# Altium footprint library 613 0xx 110 21.PcbLib: 18 footprints (part 1 of 2)
Each footprint in its own frame and in the unit in brackets; x right, y up, seen from the top. Pads: shape width x height; smd on the part's side, far side on the other; paste and mask are expansions set on the pad; w line width, h text height; cw(c..) or ccw(c..) is an arc to the next point about the centre after c.
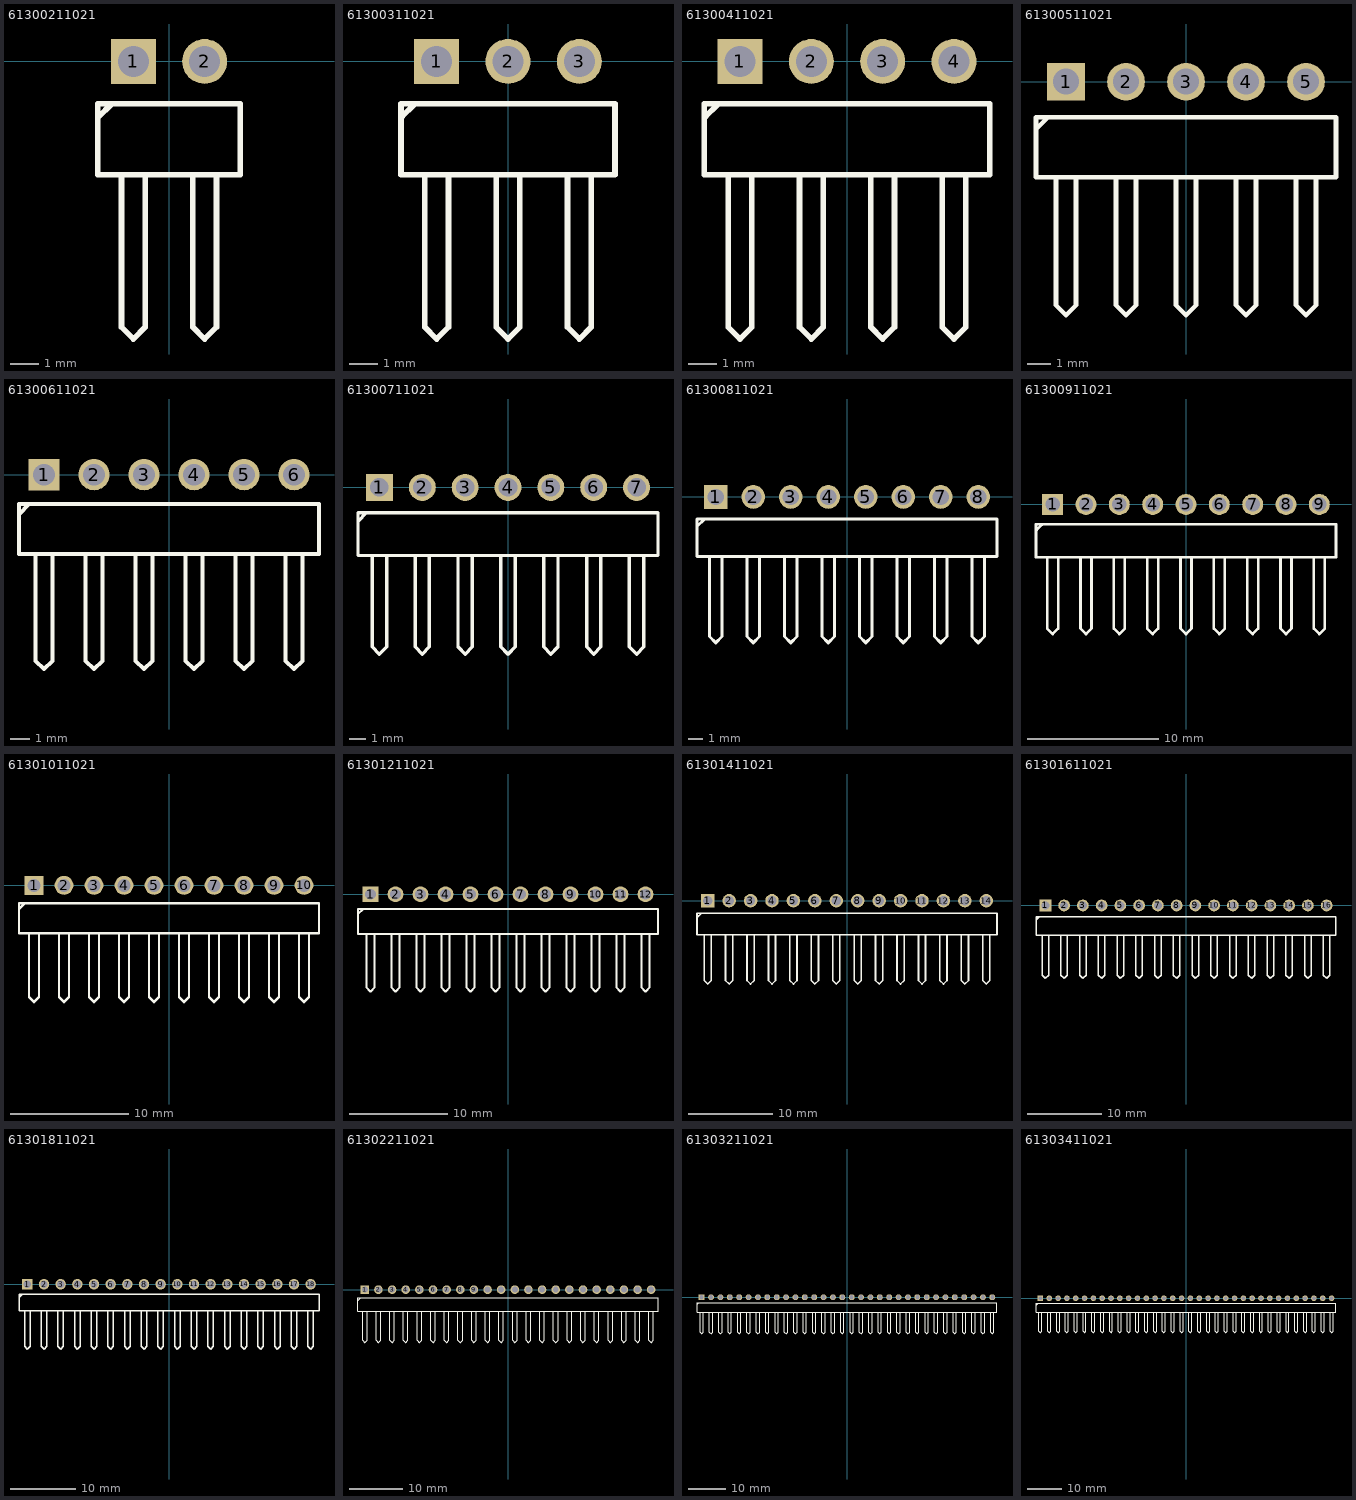
[diagram p0: the footprints below, top view; thin cyan lines are the x and y axes]

## 61300211021 [mm] "2 pins, 1 row, right angled, gold plating"
height 2.54
pads (2):
  rect 1.6x1.6 hole 1.1: 1(-1.27,0)
  round 1.6 hole 1.1: 2(1.27,0)
Top Overlay:
  lines w0.2: -2.498,-1.966 -2.074,-1.542 ; -1.693,-4.065 -1.693,-9.459 -1.27,-9.882 -0.847,-9.459 -0.847,-4.04 ; 0.847,-4.065 0.847,-9.459 1.27,-9.882 1.693,-9.459 1.693,-4.065 ; -2.54,-4.04 2.54,-4.04 2.54,-1.5 -2.54,-1.5 -2.54,-4.04
3D body "61300211021.stp": height 2.55, standoff -2.99, extent -2.54,-10.064 2.54,0.296

## 61300311021 [mm] "3 pins, 1 row, right angled, gold plating"
height 2.54
pads (3):
  rect 1.6x1.6 hole 1.1: 1(-2.54,0)
  round 1.6 hole 1.1: 2(0,0) 3(2.54,0)
Top Overlay:
  lines w0.2: -3.768,-1.966 -3.344,-1.542 ; -2.963,-4.065 -2.963,-9.459 -2.54,-9.882 -2.117,-9.459 -2.117,-4.04 ; -0.423,-4.065 -0.423,-9.459 0,-9.882 0.423,-9.459 0.423,-4.065 ; 2.117,-4.065 2.117,-9.459 2.54,-9.882 2.963,-9.459 2.963,-4.04 ; -3.81,-4.04 3.81,-4.04 3.81,-1.5 -3.81,-1.5 -3.81,-4.04
3D body "61300311021.stp": height 2.55, standoff -2.99, extent -3.81,-10.064 3.81,0.296

## 61300411021 [mm] "4 pins, 1 row, right angled, gold plating"
height 2.54
pads (4):
  rect 1.6x1.6 hole 1.1: 1(-3.81,0)
  round 1.6 hole 1.1: 2(-1.27,0) 3(1.27,0) 4(3.81,0)
Top Overlay:
  lines w0.2: -5.038,-1.966 -4.614,-1.542 ; -4.233,-4.065 -4.233,-9.459 -3.81,-9.882 -3.387,-9.459 -3.387,-4.04 ; -1.693,-4.065 -1.693,-9.459 -1.27,-9.882 -0.847,-9.459 -0.847,-4.065 ; 0.847,-4.065 0.847,-9.459 1.27,-9.882 1.693,-9.459 1.693,-4.04 ; 3.387,-4.065 3.387,-9.459 3.81,-9.882 4.233,-9.459 4.233,-4.065 ; -5.08,-4.04 -5.08,-1.5 5.08,-1.5 5.08,-4.04 -5.08,-4.04
3D body "61300411021.stp": height 2.57, standoff -2.97, extent -5.08,-10.106 5.08,0.254

## 61300511021 [mm] "5 pins, 1 row, right angled, gold plating"
height 2.54
pads (5):
  rect 1.6x1.6 hole 1.1: 1(-5.08,0)
  round 1.6 hole 1.1: 2(-2.54,0) 3(0,0) 4(2.54,0) 5(5.08,0)
Top Overlay:
  lines w0.2: -6.308,-1.966 -5.884,-1.542 ; -5.503,-4.065 -5.503,-9.459 -5.08,-9.882 -4.657,-9.459 -4.657,-4.04 ; -2.963,-4.065 -2.963,-9.459 -2.54,-9.882 -2.117,-9.459 -2.117,-4.065 ; -0.423,-4.065 -0.423,-9.459 0,-9.882 0.423,-9.459 0.423,-4.04 ; 2.117,-4.065 2.117,-9.459 2.54,-9.882 2.963,-9.459 2.963,-4.065 ; 4.657,-4.065 4.657,-9.459 5.08,-9.882 5.503,-9.459 5.503,-4.04 ; -6.35,-4.04 -6.35,-1.5 6.35,-1.5 6.35,-4.04 -6.35,-4.04
3D body "61300511021.stp": height 2.55, standoff -2.99, extent -6.35,-10.064 6.35,0.296

## 61300611021 [mm] "6 pins, 1 row, right angled, gold plating"
height 2.54
pads (6):
  rect 1.6x1.6 hole 1.1: 1(-6.35,0)
  round 1.6 hole 1.1: 2(-3.81,0) 3(-1.27,0) 4(1.27,0) 5(3.81,0) 6(6.35,0)
Top Overlay:
  lines w0.2: -7.578,-1.966 -7.154,-1.542 ; -6.773,-4.065 -6.773,-9.459 -6.35,-9.882 -5.927,-9.459 -5.927,-4.04 ; -4.233,-4.065 -4.233,-9.459 -3.81,-9.882 -3.387,-9.459 -3.387,-4.065 ; -1.693,-4.065 -1.693,-9.459 -1.27,-9.882 -0.847,-9.459 -0.847,-4.04 ; 0.847,-4.065 0.847,-9.459 1.27,-9.882 1.693,-9.459 1.693,-4.065 ; 3.387,-4.065 3.387,-9.459 3.81,-9.882 4.233,-9.459 4.233,-4.04 ; 5.927,-4.065 5.927,-9.459 6.35,-9.882 6.773,-9.459 6.773,-4.065 ; -7.62,-4.04 7.62,-4.04 7.62,-1.5 -7.62,-1.5 -7.62,-4.04
3D body "61300611021.stp": height 2.55, standoff -2.99, extent -7.62,-10.064 7.62,0.296

## 61300711021 [mm] "7 pins, 1 row, right angled, gold plating"
height 2.54
pads (7):
  rect 1.6x1.6 hole 1.1: 1(-7.62,0)
  round 1.6 hole 1.1: 2(-5.08,0) 3(-2.54,0) 4(0,0) 5(2.54,0) 6(5.08,0) 7(7.62,0)
Top Overlay:
  lines w0.2: -8.848,-1.966 -8.424,-1.542 ; -8.043,-4.065 -8.043,-9.459 -7.62,-9.882 -7.197,-9.459 -7.197,-4.04 ; -5.503,-4.065 -5.503,-9.459 -5.08,-9.882 -4.657,-9.459 -4.657,-4.065 ; -2.963,-4.065 -2.963,-9.459 -2.54,-9.882 -2.117,-9.459 -2.117,-4.04 ; -0.423,-4.065 -0.423,-9.459 0,-9.882 0.423,-9.459 0.423,-4.065 ; 2.117,-4.065 2.117,-9.459 2.54,-9.882 2.963,-9.459 2.963,-4.04 ; 4.657,-4.065 4.657,-9.459 5.08,-9.882 5.503,-9.459 5.503,-4.065 ; 7.197,-4.065 7.197,-9.459 7.62,-9.882 8.043,-9.459 8.043,-4.04 ; -8.89,-4.04 8.89,-4.04 8.89,-1.5 -8.89,-1.5 -8.89,-4.04
3D body "61300711021.stp": height 2.55, standoff -2.99, extent -8.89,-10.064 8.89,0.296

## 61300811021 [mm] "8 pins, 1 row, right angled, gold plating"
height 2.54
pads (8):
  rect 1.6x1.6 hole 1.1: 1(-8.89,0)
  round 1.6 hole 1.1: 2(-6.35,0) 3(-3.81,0) 4(-1.27,0) 5(1.27,0) 6(3.81,0) 7(6.35,0) 8(8.89,0)
Top Overlay:
  lines w0.2: -10.118,-1.966 -9.694,-1.542 ; -9.313,-4.065 -9.313,-9.459 -8.89,-9.882 -8.467,-9.459 -8.467,-4.04 ; -6.773,-4.065 -6.773,-9.459 -6.35,-9.882 -5.927,-9.459 -5.927,-4.065 ; -4.233,-4.065 -4.233,-9.459 -3.81,-9.882 -3.387,-9.459 -3.387,-4.04 ; -1.693,-4.065 -1.693,-9.459 -1.27,-9.882 -0.847,-9.459 -0.847,-4.065 ; 0.847,-4.065 0.847,-9.459 1.27,-9.882 1.693,-9.459 1.693,-4.04 ; 3.387,-4.065 3.387,-9.459 3.81,-9.882 4.233,-9.459 4.233,-4.065 ; 5.927,-4.065 5.927,-9.459 6.35,-9.882 6.773,-9.459 6.773,-4.04 ; 8.467,-4.065 8.467,-9.459 8.89,-9.882 9.313,-9.459 9.313,-4.065 ; -10.16,-4.04 10.16,-4.04 10.16,-1.5 -10.16,-1.5 -10.16,-4.04
3D body "61300811021.stp": height 2.55, standoff -2.99, extent -10.16,-10.064 10.16,0.296

## 61300911021 [mm] "9 pins, 1 row, right angled, gold plating"
height 2.54
pads (9):
  rect 1.6x1.6 hole 1.1: 1(-10.16,0)
  round 1.6 hole 1.1: 2(-7.62,0) 3(-5.08,0) 4(-2.54,0) 5(0,0) 6(2.54,0) 7(5.08,0) 8(7.62,0) 9(10.16,0)
Top Overlay:
  lines w0.2: -11.388,-1.966 -10.964,-1.542 ; -10.583,-4.065 -10.583,-9.459 -10.16,-9.882 -9.737,-9.459 -9.737,-4.04 ; -8.043,-4.065 -8.043,-9.459 -7.62,-9.882 -7.197,-9.459 -7.197,-4.065 ; -5.503,-4.065 -5.503,-9.459 -5.08,-9.882 -4.657,-9.459 -4.657,-4.04 ; -2.963,-4.065 -2.963,-9.459 -2.54,-9.882 -2.117,-9.459 -2.117,-4.065 ; -0.423,-4.065 -0.423,-9.459 0,-9.882 0.423,-9.459 0.423,-4.04 ; 2.117,-4.065 2.117,-9.459 2.54,-9.882 2.963,-9.459 2.963,-4.065 ; 4.657,-4.065 4.657,-9.459 5.08,-9.882 5.503,-9.459 5.503,-4.04 ; 7.197,-4.065 7.197,-9.459 7.62,-9.882 8.043,-9.459 8.043,-4.065 ; 9.737,-4.065 9.737,-9.459 10.16,-9.882 10.583,-9.459 10.583,-4.04 ; -11.43,-4.04 -11.43,-1.5 11.43,-1.5 11.43,-4.04 -11.43,-4.04
3D body "61300911021.stp": height 2.55, standoff -2.99, extent -11.43,-10.064 11.43,0.296

## 61301011021 [mm] "10 pins, 1 row, right angled, gold plating"
height 2.54
pads (10):
  rect 1.6x1.6 hole 1.1: 1(-11.43,0)
  round 1.6 hole 1.1: 2(-8.89,0) 3(-6.35,0) 4(-3.81,0) 5(-1.27,0) 6(1.27,0) 7(3.81,0) 8(6.35,0) 9(8.89,0) 10(11.43,0)
Top Overlay:
  lines w0.2: -12.658,-1.966 -12.234,-1.542 ; -11.853,-4.065 -11.853,-9.459 -11.43,-9.882 -11.007,-9.459 -11.007,-4.04 ; -9.313,-4.065 -9.313,-9.459 -8.89,-9.882 -8.467,-9.459 -8.467,-4.065 ; -6.773,-4.065 -6.773,-9.459 -6.35,-9.882 -5.927,-9.459 -5.927,-4.04 ; -4.233,-4.065 -4.233,-9.459 -3.81,-9.882 -3.387,-9.459 -3.387,-4.065 ; -1.693,-4.065 -1.693,-9.459 -1.27,-9.882 -0.847,-9.459 -0.847,-4.04 ; 0.847,-4.065 0.847,-9.459 1.27,-9.882 1.693,-9.459 1.693,-4.065 ; 3.387,-4.065 3.387,-9.459 3.81,-9.882 4.233,-9.459 4.233,-4.04 ; 5.927,-4.065 5.927,-9.459 6.35,-9.882 6.773,-9.459 6.773,-4.065 ; 8.467,-4.065 8.467,-9.459 8.89,-9.882 9.313,-9.459 9.313,-4.04 ; 11.007,-4.065 11.007,-9.459 11.43,-9.882 11.853,-9.459 11.853,-4.065 ; -12.7,-4.04 -12.7,-1.5 12.7,-1.5 12.7,-4.04 -12.7,-4.04
3D body "61301011021.stp": height 2.55, standoff -2.99, extent -12.7,-10.064 12.7,0.296

## 61301211021 [mm] "12 pins, 1 row, right angled, gold plating"
height 2.54
pads (12):
  rect 1.6x1.6 hole 1.1: 1(-13.97,0)
  round 1.6 hole 1.1: 2(-11.43,0) 3(-8.89,0) 4(-6.35,0) 5(-3.81,0) 6(-1.27,0) 7(1.27,0) 8(3.81,0) 9(6.35,0) 10(8.89,0) 11(11.43,0) 12(13.97,0)
Top Overlay:
  lines w0.2: -15.198,-1.966 -14.774,-1.542 ; -14.393,-4.065 -14.393,-9.459 -13.97,-9.882 -13.547,-9.459 -13.547,-4.04 ; -11.853,-4.065 -11.853,-9.459 -11.43,-9.882 -11.007,-9.459 -11.007,-4.065 ; -9.313,-4.065 -9.313,-9.459 -8.89,-9.882 -8.467,-9.459 -8.467,-4.04 ; -6.773,-4.065 -6.773,-9.459 -6.35,-9.882 -5.927,-9.459 -5.927,-4.065 ; -4.233,-4.065 -4.233,-9.459 -3.81,-9.882 -3.387,-9.459 -3.387,-4.04 ; -1.693,-4.065 -1.693,-9.459 -1.27,-9.882 -0.847,-9.459 -0.847,-4.065 ; 0.847,-4.065 0.847,-9.459 1.27,-9.882 1.693,-9.459 1.693,-4.04 ; 3.387,-4.065 3.387,-9.459 3.81,-9.882 4.233,-9.459 4.233,-4.065 ; 5.927,-4.065 5.927,-9.459 6.35,-9.882 6.773,-9.459 6.773,-4.04 ; 8.467,-4.065 8.467,-9.459 8.89,-9.882 9.313,-9.459 9.313,-4.065 ; 11.007,-4.065 11.007,-9.459 11.43,-9.882 11.853,-9.459 11.853,-4.04 ; 13.547,-4.065 13.547,-9.459 13.97,-9.882 14.393,-9.459 14.393,-4.065 ; -15.24,-4.04 -15.24,-1.5 15.24,-1.5 15.24,-4.04 -15.24,-4.04
3D body "61301211021.stp": height 2.55, standoff -2.99, extent -15.24,-10.064 15.24,0.296

## 61301411021 [mm] "14 pins, 1 row, right angled, gold plating"
height 2.54
pads (14):
  rect 1.6x1.6 hole 1.1: 1(-16.51,0)
  round 1.6 hole 1.1: 2(-13.97,0) 3(-11.43,0) 4(-8.89,0) 5(-6.35,0) 6(-3.81,0) 7(-1.27,0) 8(1.27,0) 9(3.81,0) 10(6.35,0) 11(8.89,0) 12(11.43,0) 13(13.97,0) 14(16.51,0)
Top Overlay:
  lines w0.2: -17.738,-1.966 -17.314,-1.542 ; -16.933,-4.065 -16.933,-9.459 -16.51,-9.882 -16.087,-9.459 -16.087,-4.04 ; -14.393,-4.065 -14.393,-9.459 -13.97,-9.882 -13.547,-9.459 -13.547,-4.065 ; -11.853,-4.065 -11.853,-9.459 -11.43,-9.882 -11.007,-9.459 -11.007,-4.04 ; -9.313,-4.065 -9.313,-9.459 -8.89,-9.882 -8.467,-9.459 -8.467,-4.065 ; -6.773,-4.065 -6.773,-9.459 -6.35,-9.882 -5.927,-9.459 -5.927,-4.04 ; -4.233,-4.065 -4.233,-9.459 -3.81,-9.882 -3.387,-9.459 -3.387,-4.065 ; -1.693,-4.065 -1.693,-9.459 -1.27,-9.882 -0.847,-9.459 -0.847,-4.04 ; 0.847,-4.065 0.847,-9.459 1.27,-9.882 1.693,-9.459 1.693,-4.065 ; 3.387,-4.065 3.387,-9.459 3.81,-9.882 4.233,-9.459 4.233,-4.04 ; 5.927,-4.065 5.927,-9.459 6.35,-9.882 6.773,-9.459 6.773,-4.065 ; 8.467,-4.065 8.467,-9.459 8.89,-9.882 9.313,-9.459 9.313,-4.04 ; 11.007,-4.065 11.007,-9.459 11.43,-9.882 11.853,-9.459 11.853,-4.065 ; 13.547,-4.065 13.547,-9.459 13.97,-9.882 14.393,-9.459 14.393,-4.04 ; 16.087,-4.065 16.087,-9.459 16.51,-9.882 16.933,-9.459 16.933,-4.065 ; -17.78,-4.04 -17.78,-1.5 17.78,-1.5 17.78,-4.04 -17.78,-4.04
3D body "61301411021.stp": height 2.55, standoff -2.99, extent -17.78,-10.064 17.78,0.296

## 61301611021 [mm] "16 pins, 1 row, right angled, gold plating"
height 2.54
pads (16):
  rect 1.6x1.6 hole 1.1: 1(-19.05,0)
  round 1.6 hole 1.1: 2(-16.51,0) 3(-13.97,0) 4(-11.43,0) 5(-8.89,0) 6(-6.35,0) 7(-3.81,0) 8(-1.27,0) 9(1.27,0) 10(3.81,0) 11(6.35,0) 12(8.89,0) 13(11.43,0) 14(13.97,0) 15(16.51,0) 16(19.05,0)
Top Overlay:
  lines w0.2: -20.278,-1.966 -19.854,-1.542 ; -19.473,-4.065 -19.473,-9.459 -19.05,-9.882 -18.627,-9.459 -18.627,-4.04 ; -16.933,-4.065 -16.933,-9.459 -16.51,-9.882 -16.087,-9.459 -16.087,-4.065 ; -14.393,-4.065 -14.393,-9.459 -13.97,-9.882 -13.547,-9.459 -13.547,-4.04 ; -11.853,-4.065 -11.853,-9.459 -11.43,-9.882 -11.007,-9.459 -11.007,-4.065 ; -9.313,-4.065 -9.313,-9.459 -8.89,-9.882 -8.467,-9.459 -8.467,-4.04 ; -6.773,-4.065 -6.773,-9.459 -6.35,-9.882 -5.927,-9.459 -5.927,-4.065 ; -4.233,-4.065 -4.233,-9.459 -3.81,-9.882 -3.387,-9.459 -3.387,-4.04 ; -1.693,-4.065 -1.693,-9.459 -1.27,-9.882 -0.847,-9.459 -0.847,-4.065 ; 0.847,-4.065 0.847,-9.459 1.27,-9.882 1.693,-9.459 1.693,-4.04 ; 3.387,-4.065 3.387,-9.459 3.81,-9.882 4.233,-9.459 4.233,-4.065 ; 5.927,-4.065 5.927,-9.459 6.35,-9.882 6.773,-9.459 6.773,-4.04 ; 8.467,-4.065 8.467,-9.459 8.89,-9.882 9.313,-9.459 9.313,-4.065 ; 11.007,-4.065 11.007,-9.459 11.43,-9.882 11.853,-9.459 11.853,-4.04 ; 13.547,-4.065 13.547,-9.459 13.97,-9.882 14.393,-9.459 14.393,-4.065 ; 16.087,-4.065 16.087,-9.459 16.51,-9.882 16.933,-9.459 16.933,-4.04 ; 18.627,-4.065 18.627,-9.459 19.05,-9.882 19.473,-9.459 19.473,-4.065 ; -20.32,-4.04 20.32,-4.04 20.32,-1.5 -20.32,-1.5 -20.32,-4.04
3D body "61301611021.stp": height 2.55, standoff -2.99, extent -20.32,-10.064 20.32,0.296

## 61301811021 [mm] "18 pins, 1 row, right angled, gold plating"
height 2.54
pads (18):
  rect 1.6x1.6 hole 1.1: 1(-21.59,0)
  round 1.6 hole 1.1: 2(-19.05,0) 3(-16.51,0) 4(-13.97,0) 5(-11.43,0) 6(-8.89,0) 7(-6.35,0) 8(-3.81,0) 9(-1.27,0) 10(1.27,0) 11(3.81,0) 12(6.35,0) 13(8.89,0) 14(11.43,0) 15(13.97,0) 16(16.51,0) 17(19.05,0) 18(21.59,0)
Top Overlay:
  lines w0.2: -22.818,-1.966 -22.394,-1.542 ; -22.013,-4.065 -22.013,-9.459 -21.59,-9.882 -21.167,-9.459 -21.167,-4.04 ; -19.473,-4.065 -19.473,-9.459 -19.05,-9.882 -18.627,-9.459 -18.627,-4.065 ; -16.933,-4.065 -16.933,-9.459 -16.51,-9.882 -16.087,-9.459 -16.087,-4.04 ; -14.393,-4.065 -14.393,-9.459 -13.97,-9.882 -13.547,-9.459 -13.547,-4.065 ; -11.853,-4.065 -11.853,-9.459 -11.43,-9.882 -11.007,-9.459 -11.007,-4.04 ; -9.313,-4.065 -9.313,-9.459 -8.89,-9.882 -8.467,-9.459 -8.467,-4.065 ; -6.773,-4.065 -6.773,-9.459 -6.35,-9.882 -5.927,-9.459 -5.927,-4.04 ; -4.233,-4.065 -4.233,-9.459 -3.81,-9.882 -3.387,-9.459 -3.387,-4.065 ; -1.693,-4.065 -1.693,-9.459 -1.27,-9.882 -0.847,-9.459 -0.847,-4.04 ; 0.847,-4.065 0.847,-9.459 1.27,-9.882 1.693,-9.459 1.693,-4.065 ; 3.387,-4.065 3.387,-9.459 3.81,-9.882 4.233,-9.459 4.233,-4.04 ; 5.927,-4.065 5.927,-9.459 6.35,-9.882 6.773,-9.459 6.773,-4.065 ; 8.467,-4.065 8.467,-9.459 8.89,-9.882 9.313,-9.459 9.313,-4.04 ; 11.007,-4.065 11.007,-9.459 11.43,-9.882 11.853,-9.459 11.853,-4.065 ; 13.547,-4.065 13.547,-9.459 13.97,-9.882 14.393,-9.459 14.393,-4.04 ; 16.087,-4.065 16.087,-9.459 16.51,-9.882 16.933,-9.459 16.933,-4.065 ; 18.627,-4.065 18.627,-9.459 19.05,-9.882 19.473,-9.459 19.473,-4.04 ; 21.167,-4.065 21.167,-9.459 21.59,-9.882 22.013,-9.459 22.013,-4.065 ; -22.86,-4.04 22.86,-4.04 22.86,-1.5 -22.86,-1.5 -22.86,-4.04
3D body "61301811021.stp": height 2.55, standoff -2.99, extent -22.86,-10.064 22.86,0.296

## 61302211021 [mm] "22 pins, 1 row, right angled, gold plating"
height 2.54
pads (22):
  rect 1.6x1.6 hole 1.1: 1(-26.67,0)
  round 1.6 hole 1.1: 2(-24.13,0) 3(-21.59,0) 4(-19.05,0) 5(-16.51,0) 6(-13.97,0) 7(-11.43,0) 8(-8.89,0) 9(-6.35,0) 10(-3.81,0) 11(-1.27,0) 12(1.27,0) 13(3.81,0) 14(6.35,0) 15(8.89,0) 16(11.43,0) 17(13.97,0) 18(16.51,0) 19(19.05,0) 20(21.59,0) 21(24.13,0) 22(26.67,0)
Top Overlay:
  lines w0.2: -27.898,-1.966 -27.474,-1.542 ; -27.093,-4.065 -27.093,-9.459 -26.67,-9.882 -26.247,-9.459 -26.247,-4.04 ; -24.553,-4.065 -24.553,-9.459 -24.13,-9.882 -23.707,-9.459 -23.707,-4.065 ; -22.013,-4.065 -22.013,-9.459 -21.59,-9.882 -21.167,-9.459 -21.167,-4.04 ; -19.473,-4.065 -19.473,-9.459 -19.05,-9.882 -18.627,-9.459 -18.627,-4.065 ; -16.933,-4.065 -16.933,-9.459 -16.51,-9.882 -16.087,-9.459 -16.087,-4.04 ; -14.393,-4.065 -14.393,-9.459 -13.97,-9.882 -13.547,-9.459 -13.547,-4.065 ; -11.853,-4.065 -11.853,-9.459 -11.43,-9.882 -11.007,-9.459 -11.007,-4.04 ; -9.313,-4.065 -9.313,-9.459 -8.89,-9.882 -8.467,-9.459 -8.467,-4.065 ; -6.773,-4.065 -6.773,-9.459 -6.35,-9.882 -5.927,-9.459 -5.927,-4.04 ; -4.233,-4.065 -4.233,-9.459 -3.81,-9.882 -3.387,-9.459 -3.387,-4.065 ; -1.693,-4.065 -1.693,-9.459 -1.27,-9.882 -0.847,-9.459 -0.847,-4.04 ; 0.847,-4.065 0.847,-9.459 1.27,-9.882 1.693,-9.459 1.693,-4.065 ; 3.387,-4.065 3.387,-9.459 3.81,-9.882 4.233,-9.459 4.233,-4.04 ; 5.927,-4.065 5.927,-9.459 6.35,-9.882 6.773,-9.459 6.773,-4.065 ; 8.467,-4.065 8.467,-9.459 8.89,-9.882 9.313,-9.459 9.313,-4.04 ; 11.007,-4.065 11.007,-9.459 11.43,-9.882 11.853,-9.459 11.853,-4.065 ; 13.547,-4.065 13.547,-9.459 13.97,-9.882 14.393,-9.459 14.393,-4.04 ; 16.087,-4.065 16.087,-9.459 16.51,-9.882 16.933,-9.459 16.933,-4.065 ; 18.627,-4.065 18.627,-9.459 19.05,-9.882 19.473,-9.459 19.473,-4.04 ; 21.167,-4.065 21.167,-9.459 21.59,-9.882 22.013,-9.459 22.013,-4.065 ; 23.707,-4.065 23.707,-9.459 24.13,-9.882 24.553,-9.459 24.553,-4.04 ; 26.247,-4.065 26.247,-9.459 26.67,-9.882 27.093,-9.459 27.093,-4.065 ; -27.94,-4.04 -27.94,-1.5 27.94,-1.5 27.94,-4.04 -27.94,-4.04
3D body "61302211021.stp": height 2.55, standoff -2.99, extent -27.94,-10.064 27.94,0.296

## 61303211021 [mm] "32 pins, 1 row, right angled, gold plating"
height 2.54
pads (32):
  rect 1.6x1.6 hole 1.1: 1(-39.37,0)
  round 1.6 hole 1.1: 2(-36.83,0) 3(-34.29,0) 4(-31.75,0) 5(-29.21,0) 6(-26.67,0) 7(-24.13,0) 8(-21.59,0) 9(-19.05,0) 10(-16.51,0) 11(-13.97,0) 12(-11.43,0) 13(-8.89,0) 14(-6.35,0) 15(-3.81,0) 16(-1.27,0) 17(1.27,0) 18(3.81,0) 19(6.35,0) 20(8.89,0) 21(11.43,0) 22(13.97,0) 23(16.51,0) 24(19.05,0) 25(21.59,0) 26(24.13,0) 27(26.67,0) 28(29.21,0) 29(31.75,0) 30(34.29,0) 31(36.83,0) 32(39.37,0)
Top Overlay:
  lines w0.2: -40.598,-1.966 -40.174,-1.542 ; -39.793,-4.065 -39.793,-9.459 -39.37,-9.882 -38.947,-9.459 -38.947,-4.04 ; -37.253,-4.065 -37.253,-9.459 -36.83,-9.882 -36.407,-9.459 -36.407,-4.065 ; -34.713,-4.065 -34.713,-9.459 -34.29,-9.882 -33.867,-9.459 -33.867,-4.04 ; -32.173,-4.065 -32.173,-9.459 -31.75,-9.882 -31.327,-9.459 -31.327,-4.065 ; -29.633,-4.065 -29.633,-9.459 -29.21,-9.882 -28.787,-9.459 -28.787,-4.04 ; -27.093,-4.065 -27.093,-9.459 -26.67,-9.882 -26.247,-9.459 -26.247,-4.065 ; -24.553,-4.065 -24.553,-9.459 -24.13,-9.882 -23.707,-9.459 -23.707,-4.04 ; -22.013,-4.065 -22.013,-9.459 -21.59,-9.882 -21.167,-9.459 -21.167,-4.065 ; -19.473,-4.065 -19.473,-9.459 -19.05,-9.882 -18.627,-9.459 -18.627,-4.04 ; -16.933,-4.065 -16.933,-9.459 -16.51,-9.882 -16.087,-9.459 -16.087,-4.065 ; -14.393,-4.065 -14.393,-9.459 -13.97,-9.882 -13.547,-9.459 -13.547,-4.04 ; -11.853,-4.065 -11.853,-9.459 -11.43,-9.882 -11.007,-9.459 -11.007,-4.065 ; -9.313,-4.065 -9.313,-9.459 -8.89,-9.882 -8.467,-9.459 -8.467,-4.04 ; -6.773,-4.065 -6.773,-9.459 -6.35,-9.882 -5.927,-9.459 -5.927,-4.065 ; -4.233,-4.065 -4.233,-9.459 -3.81,-9.882 -3.387,-9.459 -3.387,-4.04 ; -1.693,-4.065 -1.693,-9.459 -1.27,-9.882 -0.847,-9.459 -0.847,-4.065 ; 0.847,-4.065 0.847,-9.459 1.27,-9.882 1.693,-9.459 1.693,-4.04 ; 3.387,-4.065 3.387,-9.459 3.81,-9.882 4.233,-9.459 4.233,-4.065 ; 5.927,-4.065 5.927,-9.459 6.35,-9.882 6.773,-9.459 6.773,-4.04 ; 8.467,-4.065 8.467,-9.459 8.89,-9.882 9.313,-9.459 9.313,-4.065 ; 11.007,-4.065 11.007,-9.459 11.43,-9.882 11.853,-9.459 11.853,-4.04 ; 13.547,-4.065 13.547,-9.459 13.97,-9.882 14.393,-9.459 14.393,-4.065 ; 16.087,-4.065 16.087,-9.459 16.51,-9.882 16.933,-9.459 16.933,-4.04 ; 18.627,-4.065 18.627,-9.459 19.05,-9.882 19.473,-9.459 19.473,-4.065 ; 21.167,-4.065 21.167,-9.459 21.59,-9.882 22.013,-9.459 22.013,-4.04 ; 23.707,-4.065 23.707,-9.459 24.13,-9.882 24.553,-9.459 24.553,-4.065 ; 26.247,-4.065 26.247,-9.459 26.67,-9.882 27.093,-9.459 27.093,-4.04 ; 28.787,-4.065 28.787,-9.459 29.21,-9.882 29.633,-9.459 29.633,-4.065 ; 31.327,-4.065 31.327,-9.459 31.75,-9.882 32.173,-9.459 32.173,-4.04 ; 33.867,-4.065 33.867,-9.459 34.29,-9.882 34.713,-9.459 34.713,-4.065 ; 36.407,-4.065 36.407,-9.459 36.83,-9.882 37.253,-9.459 37.253,-4.04 ; 38.947,-4.065 38.947,-9.459 39.37,-9.882 39.793,-9.459 39.793,-4.065 ; -40.64,-4.04 -40.64,-1.5 40.64,-1.5 40.64,-4.04 -40.64,-4.04
3D body "61303211021.stp": height 2.55, standoff -2.99, extent -40.64,-10.064 40.64,0.296

## 61303411021 [mm] "34 pins, 1 row, right angled, gold plating"
height 2.54
pads (34):
  rect 1.6x1.6 hole 1.1: 1(-41.91,0)
  round 1.6 hole 1.1: 2(-39.37,0) 3(-36.83,0) 4(-34.29,0) 5(-31.75,0) 6(-29.21,0) 7(-26.67,0) 8(-24.13,0) 9(-21.59,0) 10(-19.05,0) 11(-16.51,0) 12(-13.97,0) 13(-11.43,0) 14(-8.89,0) 15(-6.35,0) 16(-3.81,0) 17(-1.27,0) 18(1.27,0) 19(3.81,0) 20(6.35,0) 21(8.89,0) 22(11.43,0) 23(13.97,0) 24(16.51,0) 25(19.05,0) 26(21.59,0) 27(24.13,0) 28(26.67,0) 29(29.21,0) 30(31.75,0) 31(34.29,0) 32(36.83,0) 33(39.37,0) 34(41.91,0)
Top Overlay:
  lines w0.2: -43.138,-1.966 -42.714,-1.542 ; -42.333,-4.065 -42.333,-9.459 -41.91,-9.882 -41.487,-9.459 -41.487,-4.04 ; -39.793,-4.065 -39.793,-9.459 -39.37,-9.882 -38.947,-9.459 -38.947,-4.065 ; -37.253,-4.065 -37.253,-9.459 -36.83,-9.882 -36.407,-9.459 -36.407,-4.04 ; -34.713,-4.065 -34.713,-9.459 -34.29,-9.882 -33.867,-9.459 -33.867,-4.065 ; -32.173,-4.065 -32.173,-9.459 -31.75,-9.882 -31.327,-9.459 -31.327,-4.04 ; -29.633,-4.065 -29.633,-9.459 -29.21,-9.882 -28.787,-9.459 -28.787,-4.065 ; -27.093,-4.065 -27.093,-9.459 -26.67,-9.882 -26.247,-9.459 -26.247,-4.04 ; -24.553,-4.065 -24.553,-9.459 -24.13,-9.882 -23.707,-9.459 -23.707,-4.065 ; -22.013,-4.065 -22.013,-9.459 -21.59,-9.882 -21.167,-9.459 -21.167,-4.04 ; -19.473,-4.065 -19.473,-9.459 -19.05,-9.882 -18.627,-9.459 -18.627,-4.065 ; -16.933,-4.065 -16.933,-9.459 -16.51,-9.882 -16.087,-9.459 -16.087,-4.04 ; -14.393,-4.065 -14.393,-9.459 -13.97,-9.882 -13.547,-9.459 -13.547,-4.065 ; -11.853,-4.065 -11.853,-9.459 -11.43,-9.882 -11.007,-9.459 -11.007,-4.04 ; -9.313,-4.065 -9.313,-9.459 -8.89,-9.882 -8.467,-9.459 -8.467,-4.065 ; -6.773,-4.065 -6.773,-9.459 -6.35,-9.882 -5.927,-9.459 -5.927,-4.04 ; -4.233,-4.065 -4.233,-9.459 -3.81,-9.882 -3.387,-9.459 -3.387,-4.065 ; -1.693,-4.065 -1.693,-9.459 -1.27,-9.882 -0.847,-9.459 -0.847,-4.04 ; 0.847,-4.065 0.847,-9.459 1.27,-9.882 1.693,-9.459 1.693,-4.065 ; 3.387,-4.065 3.387,-9.459 3.81,-9.882 4.233,-9.459 4.233,-4.04 ; 5.927,-4.065 5.927,-9.459 6.35,-9.882 6.773,-9.459 6.773,-4.065 ; 8.467,-4.065 8.467,-9.459 8.89,-9.882 9.313,-9.459 9.313,-4.04 ; 11.007,-4.065 11.007,-9.459 11.43,-9.882 11.853,-9.459 11.853,-4.065 ; 13.547,-4.065 13.547,-9.459 13.97,-9.882 14.393,-9.459 14.393,-4.04 ; 16.087,-4.065 16.087,-9.459 16.51,-9.882 16.933,-9.459 16.933,-4.065 ; 18.627,-4.065 18.627,-9.459 19.05,-9.882 19.473,-9.459 19.473,-4.04 ; 21.167,-4.065 21.167,-9.459 21.59,-9.882 22.013,-9.459 22.013,-4.065 ; 23.707,-4.065 23.707,-9.459 24.13,-9.882 24.553,-9.459 24.553,-4.04 ; 26.247,-4.065 26.247,-9.459 26.67,-9.882 27.093,-9.459 27.093,-4.065 ; 28.787,-4.065 28.787,-9.459 29.21,-9.882 29.633,-9.459 29.633,-4.04 ; 31.327,-4.065 31.327,-9.459 31.75,-9.882 32.173,-9.459 32.173,-4.065 ; 33.867,-4.065 33.867,-9.459 34.29,-9.882 34.713,-9.459 34.713,-4.04 ; 36.407,-4.065 36.407,-9.459 36.83,-9.882 37.253,-9.459 37.253,-4.065 ; 38.947,-4.065 38.947,-9.459 39.37,-9.882 39.793,-9.459 39.793,-4.04 ; 41.487,-4.065 41.487,-9.459 41.91,-9.882 42.333,-9.459 42.333,-4.065 ; 43.18,-4.04 43.18,-1.5 ; 43.18,-4.04 43.18,-1.5 ; 43.18,-4.04 -43.18,-4.04 -43.18,-1.5 43.18,-1.5
3D body "61303411021.stp": height 2.55, standoff -2.99, extent -43.18,-10.064 43.18,0.296